# Altium footprint library PassiveComponents.PcbLib: 57 footprints (part 3 of 4)
Each footprint in its own frame and in the unit in brackets; x right, y up, seen from the top. Pads: shape width x height; smd on the part's side, far side on the other; paste and mask are expansions set on the pad; w line width, h text height; cw(c..) or ccw(c..) is an arc to the next point about the centre after c.
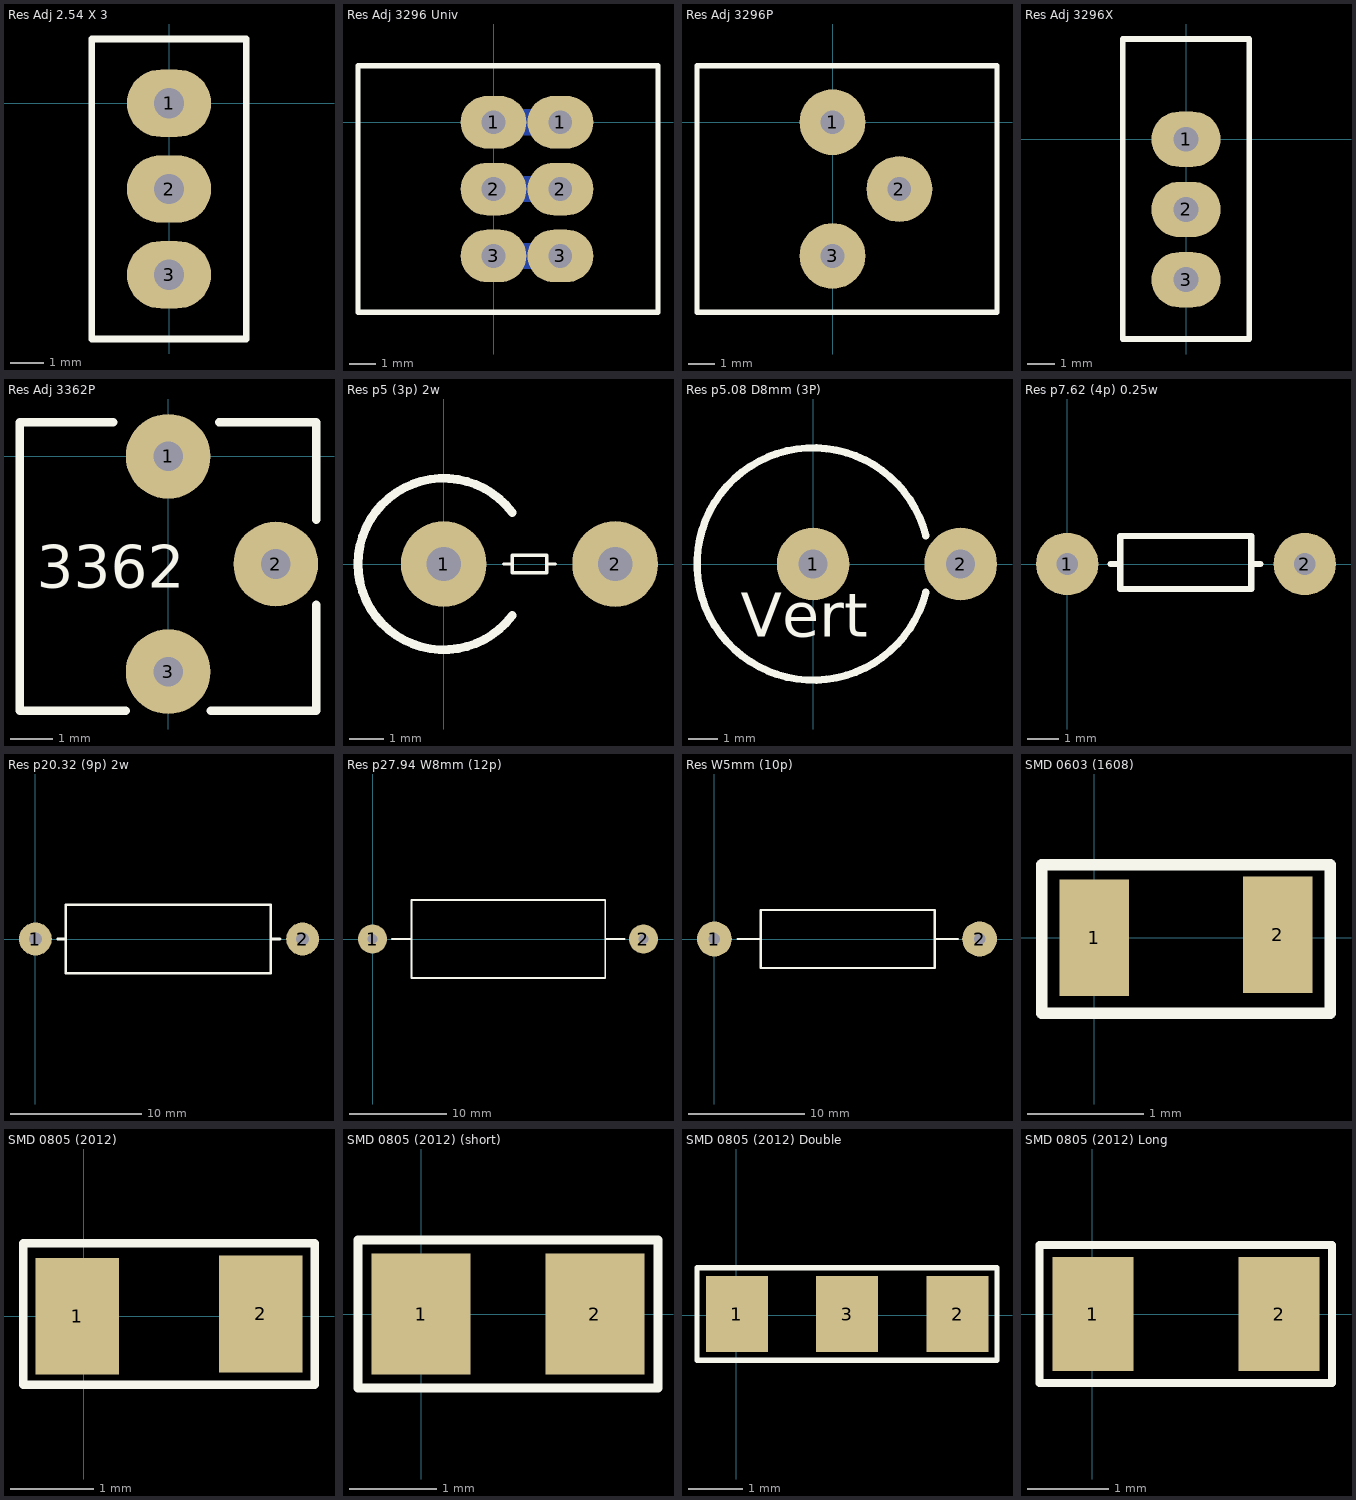
[diagram p2: the footprints below, top view; thin cyan lines are the x and y axes]

## Res Adj 2.54 X 3 [mm]
height 10
pads (3):
  oval 2.5x2 hole 0.9: 1(0,0) 2(0,-2.54) 3(0,-5.08)
Top Overlay:
  lines w0.2: -2.286,-6.985 -2.286,1.905 2.286,1.905 2.286,-1.746 2.286,-6.985 -2.286,-6.985
3D body "Resistor Adjustable multiTurn Vertical.step": height 12.06, standoff -5.44, extent -2.387,-7.14 2.413,2.06

## Res Adj 3296 Univ [mm]
height 10
pads (6):
  oval 2.5x2 hole 0.9: 1(0,0) 1(2.54,0) 2(0,-2.54) 2(2.54,-2.54) 3(0,-5.08) 3(2.54,-5.08)
Bottom Layer:
  lines w1: 0,-5.08 2.54,-5.08 ; 0,-2.54 2.54,-2.54 ; 0,0 2.54,0
Top Overlay:
  lines w0.2: -5.15,-7.225 6.25,-7.225 6.25,-0.11 6.25,2.15 -5.15,2.15 -5.15,-7.225
3D body "Resistor Adjustable multiTurn 3296P.step": height 4.82, standoff -2.08, extent -5.225,-7.3 6.325,2.23

## Res Adj 3296P [mm]
height 10
pads (3):
  round 2.5 hole 0.9: 1(0,0) 2(2.54,-2.54) 3(0,-5.08)
Top Overlay:
  lines w0.2: -5.15,-7.225 -5.15,2.15 6.25,2.15 6.25,-0.11 6.25,-7.225 -5.15,-7.225
3D body "Resistor Adjustable multiTurn 3296P.step": height 4.8, standoff -2.1, extent -5.225,-7.3 6.325,2.23

## Res Adj 3296X [mm]
height 10
pads (3):
  oval 2.5x2 hole 0.9: 1(0,0) 2(0,-2.54) 3(0,-5.08)
Top Overlay:
  lines w0.2: -2.286,-7.225 -2.286,3.625 2.286,3.625 2.286,-1.746 2.286,-7.225 -2.286,-7.225
3D body "Resistor Adjustable multiTurn 3296X.step": height 10.03, standoff -1.6, extent -2.4,-7.305 2.4,3.725

## Res Adj 3362P [mm]
height 10
pads (3):
  round 2 hole 0.7: 1(0,0) 2(2.54,-2.54) 3(0,-5.08)
Top Overlay:
  lines w0.2: -1.3,0.8 -3.5,0.8 -3.5,-6 -1,-6 ; 1,-6 3.5,-6 3.5,-3.5 ; 1.2,0.8 3.5,0.8 3.5,-1.5
  text "3362" at -3.1,-3.1 h1
3D body "Resistor Adj 3362p.stp": height 4.69, standoff -5.47, extent -3.535,-5.953 3.5,0.753

## Res p5 (3p) 2w [mm] "L p5mm; horisontal"
height 5
pads (2):
  round 2.5 hole 1: 1(0,0) 2(5,0)
Top Overlay:
  lines w0.1: 1.75,0 2,0 ; 3,0 3.25,0 ; 2,-0.25 2,0.25 3,0.25 3,-0.25 2,-0.25
  lines w0.254: 2,-1.5 cw(c0,0) 2,1.5
3D body "Resistor 2W (V).STEP": height 22.1, standoff -3.5, extent -2.6,-2.6 5.4,2.6

## Res p5.08 D8mm (3P) [mm] "L p5.08 (3pin); Vertical"
height 20
pads (2):
  round 2.5 hole 1: 1(0,0) 2(5.08,0)
Top Overlay:
  lines w0.254: 3.881,-0.97 cw(c0,0) 3.881,0.97
  text "Vert" at -2.5,-2.5 h1.52

## Res p7.62 (4p) 0.25w [mm] "L p7.62; horisontal"
height 2
pads (2):
  round 2 hole 0.7: 1(0,0) 2(7.62,0)
Top Overlay:
  lines w0.2: 1.4,0 1.7,0 ; 6,0 6.2,0 ; 1.7,0 1.7,0.9 5.9,0.9 5.9,-0.8 1.7,-0.8 1.7,0
3D body "RESISTOR 7_62MM DIP-DEFAULT.STEP": height 2.1, standoff -1.9, extent -0.3,-1 7.8,1

## Res p20.32 (9p) 2w [mm] "L p20.32; horisontal"
height 5
pads (2):
  round 2.5 hole 1: 1(0,0) 2(20.32,0)
Top Overlay:
  lines w0.2: 1.7,0 2.3,0 ; 18,0 18.6,0 ; 2.3,0 2.3,-2.6 17.9,-2.6 17.9,2.6 2.3,2.6 2.3,0
3D body "Resistor 2W (H) 16mm.STEP": height 5.5, standoff -3, extent -0.35,-2.75 20.67,2.75

## Res p27.94 W8mm (12p) [mm] "L p27.94 (11pin); horisontal"
height 8
pads (2):
  round 3 hole 1: 1(0,0) 2(27.94,0)
Top Overlay:
  lines w0.2: 2,0 4,0 ; 24,0 26,0 ; 4,0 4,-4 24,-4 24,4 4,4 4,0

## Res W5mm (10p) [mm] "L p22.86 (10pin); horisontal"
height 5
pads (2):
  round 3 hole 1: 1(0,0) 2(22.86,0)
Top Overlay:
  lines w0.2: 2,0 4,0 ; 19,0 21,0 ; 4,0 4,2.5 19,2.5 19,-2.5 4,-2.5 4,0

## SMD 0603 (1608) [mm]
height 0.55
pads (2):
  rect 0.6x1 smd: 1(0,0) 2(1.575,0.025)
Top Overlay:
  lines w0.1: -0.45,-0.65 2.025,-0.65 2.025,0.625 -0.45,0.625 -0.45,-0.65
3D body "SMD 0603 (1608).step": height 0.45, standoff 0, extent 0.025,-0.4 1.575,0.45

## SMD 0805 (2012) [mm]
pads (2):
  rect 1x1.4 smd: 1(-0.075,0) 2(2.125,0.025)
Top Overlay:
  lines w0.1: -0.725,-0.825 2.775,-0.825 2.775,0.875 -0.725,0.875 -0.725,-0.063 -0.725,-0.825
3D body "SMD 0805 (2012).step": height 0.45, standoff 0, extent 0.025,-0.6 2.025,0.65

## SMD 0805 (2012) (short) [mil]
pads (2):
  rect 45x55 smd: 1(0,0) 2(78.74,0)
Top Overlay:
  lines w3.94: -28.54,-33.46 107.28,-33.46 107.28,33.46 -28.54,33.46 -28.54,-2.48 -28.54,-33.46
3D body "SMD 0805 (2012).step": height 17.76, standoff 0, extent 0.01,-24.6 78.75,24.61

## SMD 0805 (2012) Double [mil]
height 19.68
pads (3):
  rect 45x55 smd: 1(0.35,0.98) 2(160.35,0.98) 3(80.35,0.98)
Top Overlay:
  lines w3.94: -28.54,-32.48 188.98,-32.48 188.98,34.45 -28.54,34.45 -28.54,-2.48 -28.54,-32.48
3D body "SMD 0805 (2012).step": height 17.76, standoff 0, extent 80.72,-23.61 159.46,25.6
3D body "SMD 0805 (2012).step": height 17.76, standoff 0, extent 0.99,-23.61 79.73,25.6

## SMD 0805 (2012) Long [mm]
pads (2):
  rect 1x1.4 smd: 1(0.009,0) 2(2.3,0)
Top Overlay:
  lines w0.1: -0.65,-0.85 2.95,-0.85 2.95,0.85 -0.65,0.85 -0.65,-0.85
3D body "SMD 0805 (2012).step": height 0.45, standoff 0, extent 0.15,-0.625 2.15,0.625